# EAGLE library part ENC28J60-I_SS (library ENC28J60-I_SS)
Stand-Alone Ethernet Controller Source: Datasheet <http://componentsearchengine.com/Datasheets/3/ENC28J60-I_SS.pdf>
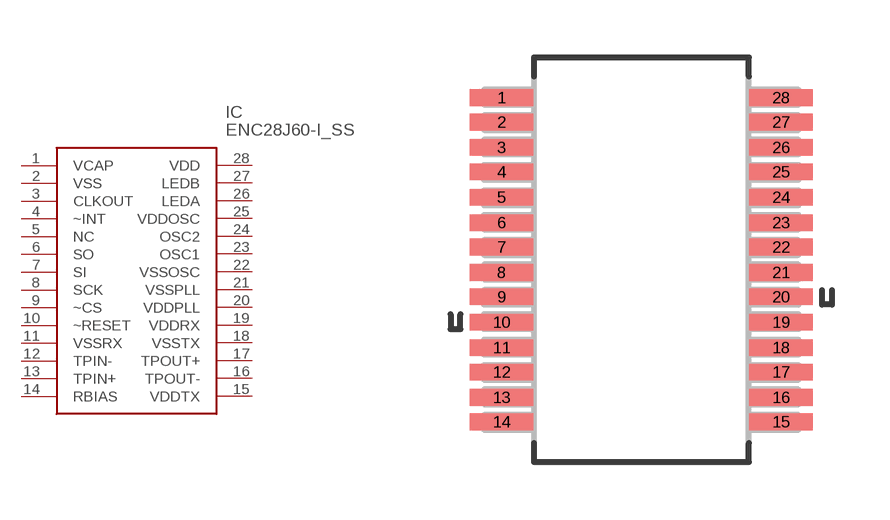
[diagram p0: symbol with the pads of SOP65P780X200-28N; footprint SOP65P780X200-28N]

Designator prefix IC

## ENC28J60-I_SS (Allied_Number: 70047510; Allied_Price-Stock: https://www.alliedelec.com/microchip-technology-inc-enc28j60-i-ss/70047510/; Arrow_Part_Number: ENC28J60-I/SS; Arrow_Price-Stock: https://www.arrow.com/en/products/enc28j60-iss/microchip-technology; Description: Stand-Alone Ethernet Controller; Height: mm; Manufacturer_Name: Microchip; Manufacturer_Part_Number: ENC28J60-I/SS; RS_Part_Number: 7707755P; RS_Price-Stock: http://uk.rs-online.com/web/p/products/7707755P)  [SOP65P780X200-28N]
1  VCAP
2  VSS
3  CLKOUT
4  ~INT
5  NC  nc
6  SO
7  SI
8  SCK
9  ~CS
10  ~RESET
11  VSSRX
12  TPIN-
13  TPIN+
14  RBIAS
15  VDDTX
16  TPOUT-
17  TPOUT+
18  VSSTX
19  VDDRX
20  VDDPLL
21  VSSPLL
22  VSSOSC
23  OSC1
24  OSC2
25  VDDOSC
26  LEDA
27  LEDB
28  VDD

## Footprint SOP65P780X200-28N (pad centres in mm)
SOP65P780X200-28N
smd 1.651 x 0.432: 1 -3.632,4.216; 2 -3.632,3.581; 3 -3.632,2.921; 4 -3.632,2.286; 5 -3.632,1.626; 6 -3.632,0.965; 7 -3.632,0.33; 8 -3.632,-0.33; 9 -3.632,-0.965; 10 -3.632,-1.626; 11 -3.632,-2.286; 12 -3.632,-2.921; 13 -3.632,-3.581; 14 -3.632,-4.216; 15 3.632,-4.216; 16 3.632,-3.581; 17 3.632,-2.921; 18 3.632,-2.286; 19 3.632,-1.626; 20 3.632,-0.965; 21 3.632,-0.33; 22 3.632,0.33; 23 3.632,0.965; 24 3.632,1.626; 25 3.632,2.286; 26 3.632,2.921; 27 3.632,3.581; 28 3.632,4.216